# EAGLE library part UCC27526 (library ic-TI)
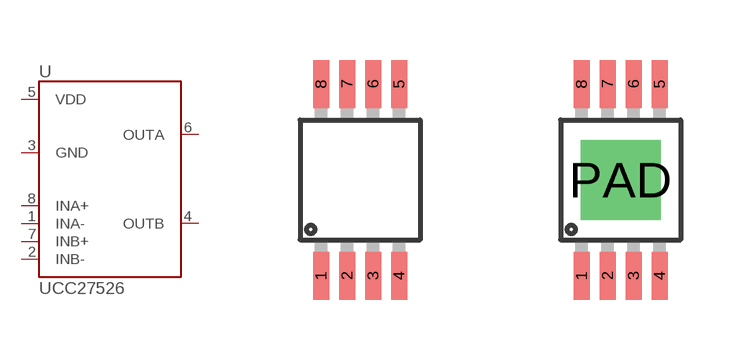
[diagram p43: symbol with the pads of MSOP8; footprints MSOP8, MSOP8-PAD]

Designator prefix U

## UCC27526DGN-NOPAD  [MSOP8]
1  INA-
2  INB-
3  GND
4  OUTB
5  VDD
6  OUTA
7  INB+
8  INA+

## UCC27526DGN  [MSOP8-PAD]
1  INA-
2  INB-
3  GND
4  OUTB
5  VDD
6  OUTA
7  INB+
8  INA+
PAD  GND

## Footprint MSOP8 (pad centres in mm)
smd 0.4 x 1.2: 1 -0.975,-2.4; 2 -0.325,-2.4; 3 0.325,-2.4; 4 0.975,-2.4; 5 0.975,2.4; 6 0.325,2.4; 7 -0.325,2.4; 8 -0.975,2.4

## Footprint MSOP8-PAD (pad centres in mm)
smd 0.4 x 1.2: 1 -0.975,-2.4; 2 -0.325,-2.4; 3 0.325,-2.4; 4 0.975,-2.4; 5 0.975,2.4; 6 0.325,2.4; 7 -0.325,2.4; 8 -0.975,2.4
drill 1.3 pad 2 square: PAD 0,0